# Altium schematic symbol library 691418420006.SchLib: 1 symbol
Pins are listed as number, name and electrical type; pins without a type are passive.

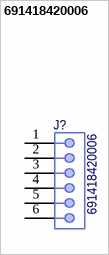
[diagram p0: symbol 691418420006]

## 691418420006
designator J?
pins: 1, 2, 3, 4, 5, 6